# EAGLE library part 4521 (library 45xx)
24-stage FREQUENCY DIVIDER new power gate with second VDD + VSS Source: http://www.standardics.nxp.com/products/hef/datasheet/hef4521b.pdf
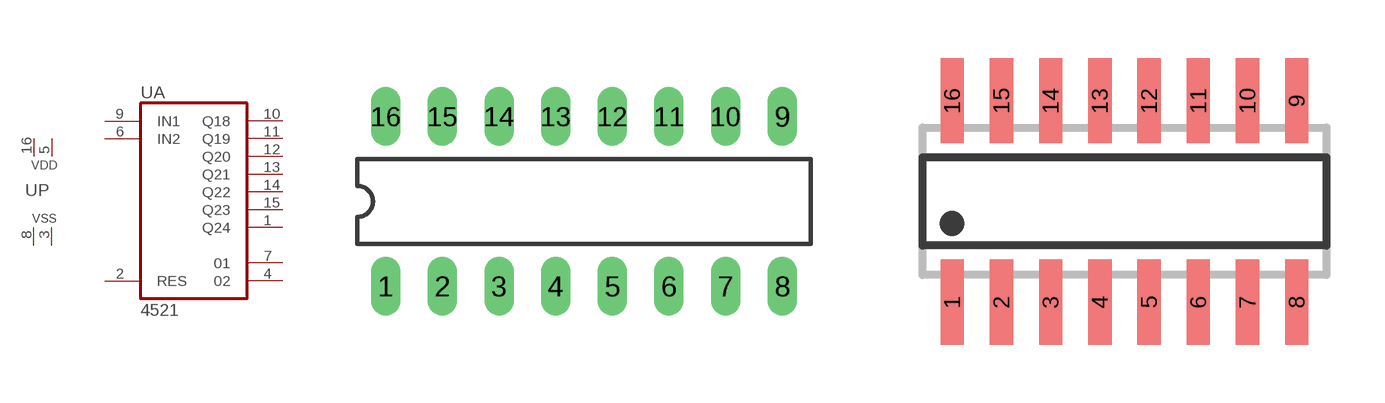
[diagram p16: symbol with the pads of DIL16; footprints DIL16, SO16]

Designator prefix U; gates A=4521 P=PWRN2

## 4521N  [DIL16]
1  A:Q24  out
2  A:RES  in
3  P:VSS  pwr
4  A:02  out
5  P:VDD  pwr
6  A:IN2  in
7  A:01  out
8  P:VSS  pwr
9  A:IN1  in
10  A:Q18  out
11  A:Q19  out
12  A:Q20  out
13  A:Q21  out
14  A:Q22  out
15  A:Q23  out
16  P:VDD  pwr

## 4521D  [SO16]
Pads as for DIL16

## Footprint DIL16 (pad centres in mm)
Dual In Line Package
drill 0.813 long: 1 -8.89,-3.81; 2 -6.35,-3.81; 3 -3.81,-3.81; 4 -1.27,-3.81; 5 1.27,-3.81; 6 3.81,-3.81; 7 6.35,-3.81; 8 8.89,-3.81; 9 8.89,3.81; 10 6.35,3.81; 11 3.81,3.81; 12 1.27,3.81; 13 -1.27,3.81; 14 -3.81,3.81; 15 -6.35,3.81; 16 -8.89,3.81

## Footprint SO16 (pad centres in mm)
SMALL OUTLINE INTEGRATED CIRCUIT body 3.9 mm/JEDEC MS-012AC
smd 0.6 x 2.2: 1 -4.445,-2.6; 2 -3.175,-2.6; 3 -1.905,-2.6; 4 -0.635,-2.6; 5 0.635,-2.6; 6 1.905,-2.6; 7 3.175,-2.6; 8 4.445,-2.6; 9 4.445,2.6; 10 3.175,2.6; 11 1.905,2.6; 12 0.635,2.6; 13 -0.635,2.6; 14 -1.905,2.6; 15 -3.175,2.6; 16 -4.445,2.6